# EAGLE library part PROCESSOR (library My-miniCard)
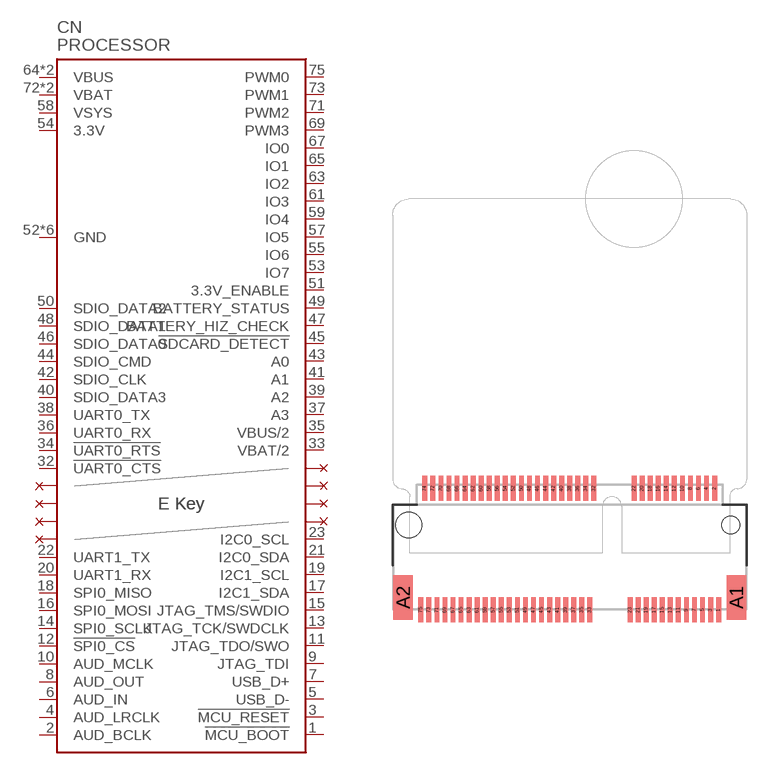
[diagram p0: symbol with the pads of SOCKET-PROCESSOR; footprint SOCKET-PROCESSOR]

Designator prefix CN

## PROCESSOR  [SOCKET-PROCESSOR]
1  !MCU_BOOT
2  AUD_BCLK
3  !MCU_RESET
4  AUD_LRCLK
5  USB_D-
6  AUD_IN
7  USB_D+
8  AUD_OUT
9  JTAG_TDI
10  AUD_MCLK
11  JTAG_TDO/SWO
12  !SPI0_CS
13  JTAG_TCK/SWDCLK
14  SPI0_SCLK
15  JTAG_TMS/SWDIO
16  SPI0_MOSI
17  I2C1_SDA
18  SPI0_MISO
19  I2C1_SCL
20  UART1_RX
21  I2C0_SDA
22  UART1_TX
23  I2C0_SCL
32  !UART0_CTS
33  VBAT/2
34  !UART0_RTS
35  VBUS/2
36  UART0_RX
37  A3
38  UART0_TX
39  A2
40  SDIO_DATA3
41  A1
42  SDIO_CLK
43  A0
44  SDIO_CMD
45  !SDCARD_DETECT
46  SDIO_DATA0
47  BATTERY_HIZ_CHECK
48  SDIO_DATA1
49  BATTERY_STATUS
50  SDIO_DATA2
51  3.3V_ENABLE
52  GND
53  IO7
54  3.3V
55  IO6
56  GND
57  IO5
58  VSYS
59  IO4
60  GND
61  IO3
62  GND
63  IO2
64  VBUS
65  IO1
66  VBUS
67  IO0
68  GND
69  PWM3
70  GND
71  PWM2
72  VBAT
73  PWM1
74  VBAT
75  PWM0

## Footprint SOCKET-PROCESSOR (pad centres in mm)
smd 0.3 x 1.55: 1 9.25,-5.275; 2 9,2.275; 3 8.75,-5.275; 4 8.5,2.275; 5 8.25,-5.275; 6 8,2.275; 7 7.75,-5.275; 8 7.5,2.275; 9 7.25,-5.275; 10 7,2.275; 11 6.75,-5.275; 12 6.5,2.275; 13 6.25,-5.275; 14 6,2.275; 15 5.75,-5.275; 16 5.5,2.275; 17 5.25,-5.275; 18 5,2.275; 19 4.75,-5.275; 20 4.5,2.275; 21 4.25,-5.275; 22 4,2.275; 23 3.75,-5.275; 32 1.5,2.275; 33 1.25,-5.275; 34 1,2.275; 35 0.75,-5.275; 36 0.5,2.275; 37 0.25,-5.275; 38 0,2.275; 39 -0.25,-5.275; 40 -0.5,2.275; 41 -0.75,-5.275; 42 -1,2.275; 43 -1.25,-5.275; 44 -1.5,2.275; 45 -1.75,-5.275; 46 -2,2.275; 47 -2.25,-5.275; 48 -2.5,2.275; 49 -2.75,-5.275; 50 -3,2.275; 51 -3.25,-5.275; 52 -3.5,2.275; 53 -3.75,-5.275; 54 -4,2.275; 55 -4.25,-5.275; 56 -4.5,2.275; 57 -4.75,-5.275; 58 -5,2.275; 59 -5.25,-5.275; 60 -5.5,2.275; 61 -5.75,-5.275; 62 -6,2.275; 63 -6.25,-5.275; 64 -6.5,2.275; 65 -6.75,-5.275; 66 -7,2.275; 67 -7.25,-5.275; 68 -7.5,2.275; 69 -7.75,-5.275; 70 -8,2.275; 71 -8.25,-5.275; 72 -8.5,2.275; 73 -8.75,-5.275; 74 -9,2.275; 75 -9.25,-5.275
smd 1.2 x 2.75: A1 10.35,-4.5; A2 -10.35,-4.5
hole 1.1 at 10,0
hole 1.6 at -10,0